# Altium footprint library common.PcbLib: 22 footprints (part 1 of 2)
Each footprint in its own frame and in the unit in brackets; x right, y up, seen from the top. Pads: shape width x height; smd on the part's side, far side on the other; paste and mask are expansions set on the pad; w line width, h text height; cw(c..) or ccw(c..) is an arc to the next point about the centre after c.
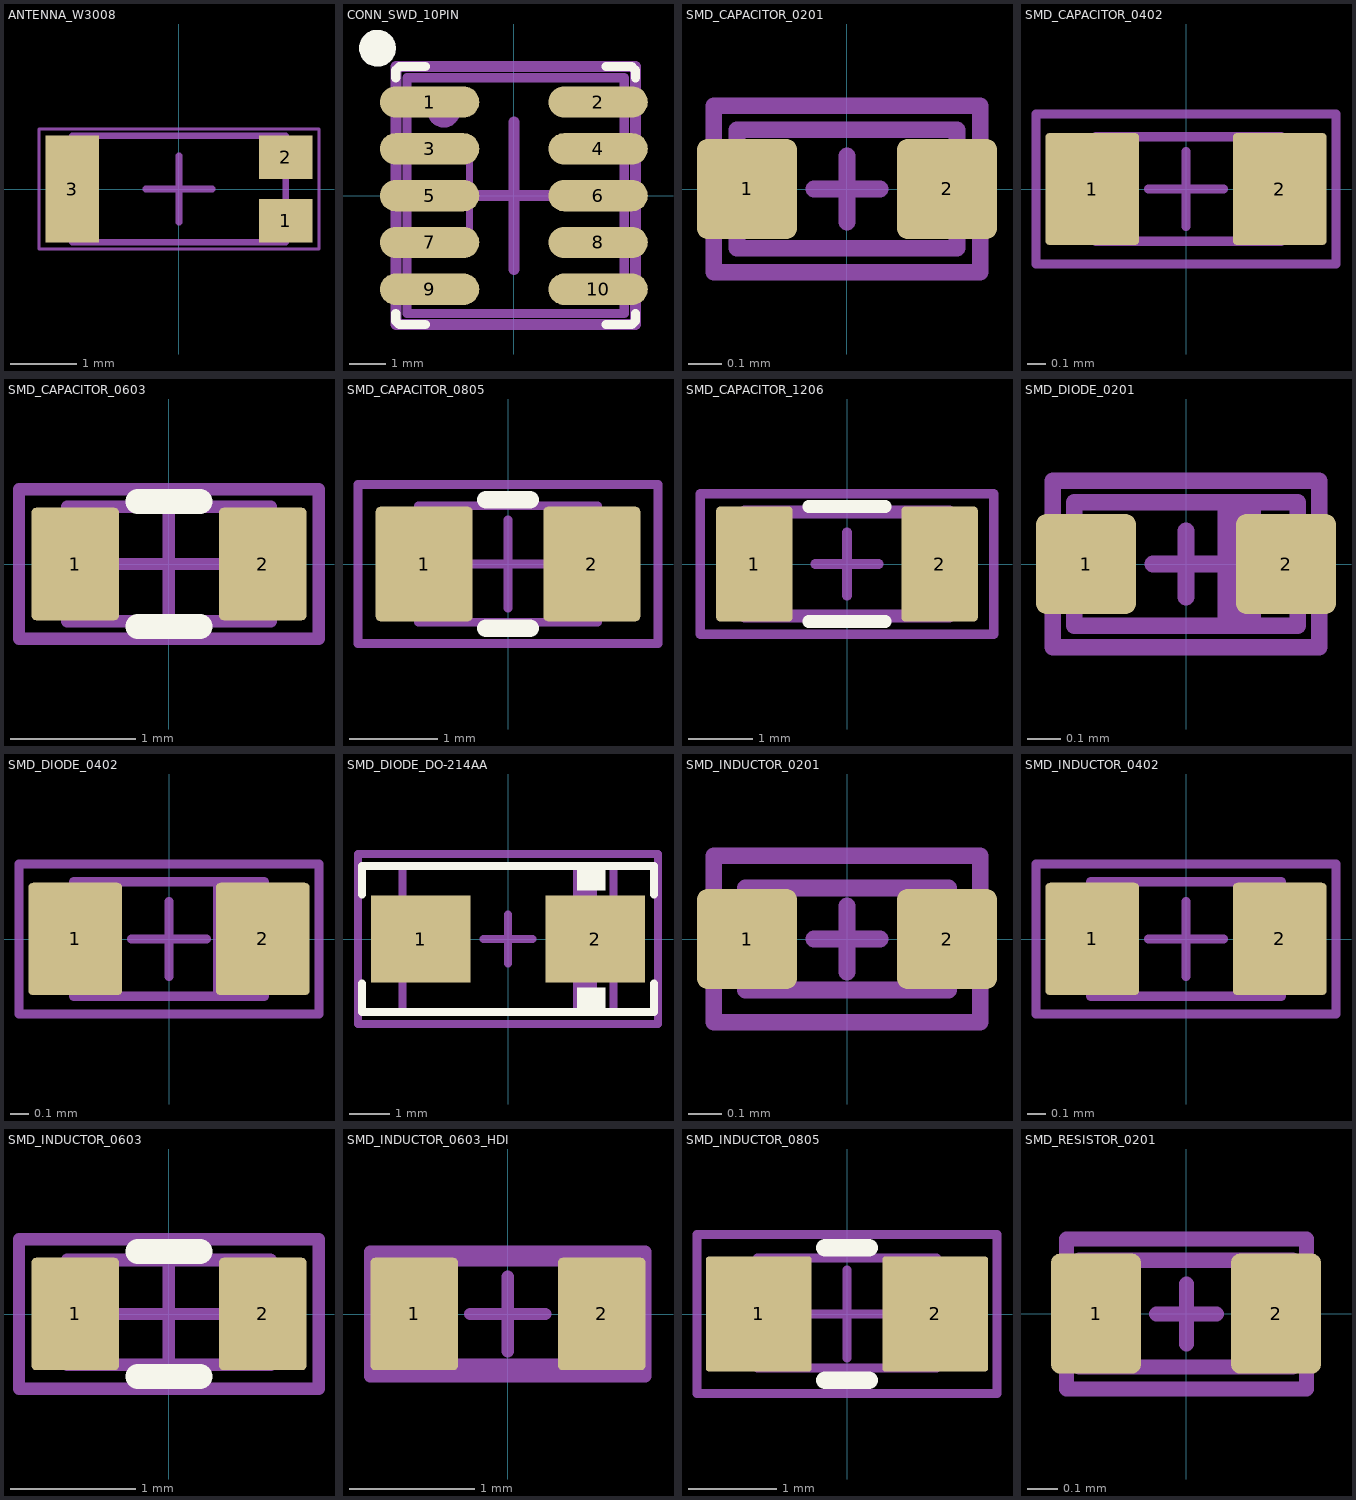
[diagram p0: the footprints below, top view; thin cyan lines are the x and y axes]

## ANTENNA_W3008 [mm]
pads (3):
  rect 0.8x0.65 smd: 1(1.6,-0.475) 2(1.6,0.475)
  rect 0.8x1.6 smd: 3(-1.6,0)
Top 3D Body:
  lines w0.1: -1.6,-0.8 1.6,-0.8 1.6,0.8 -1.6,0.8 -1.6,-0.8
Top Assembly (Mech15):
  lines w0.05: -2.1,-0.9 2.1,-0.9 2.1,0.9 -2.1,0.9 -2.1,-0.9
  lines w0.1: -0.5,0 0.5,0 ; 0,-0.5 0,0.5
3D body "ANT_W3008.stp": height 1.1, standoff 0, extent -1.6,-0.8 1.6,0.8

## CONN_SWD_10PIN [mm]
pads (10):
  oval 2.7x0.85 smd paste-0.15 mask+0.07: 1(-2.286,2.54) 2(2.286,2.54) 3(-2.286,1.27) 4(2.286,1.27) 5(-2.286,0) 6(2.286,0) 7(-2.286,-1.27) 8(2.286,-1.27) 9(-2.286,-2.54) 10(2.286,-2.54)
Top Overlay:
  circle w0.5: c-3.7,4 r0.25
  lines w0.25: -3.2,-3.2 -3.2,-3.4 -3.1,-3.5 -2.4,-3.5 ; -3.2,3.2 -3.2,3.4 -3.1,3.5 -2.4,3.5 ; 2.5,-3.5 3.2,-3.5 3.3,-3.4 3.3,-3.2 ; 2.5,3.5 3.2,3.5 3.3,3.4 3.3,3.2
Top 3D Body:
  circle w0.5: c-1.9,2.3 r0.2
  lines w0.2: -2.9,-1.3 -1.2,-1.3 -1.2,1.3 -2.9,1.3
  lines w0.25: -2.9,-3.2 3,-3.2 3,3.2 -2.9,3.2 -2.9,-3.2
Top Assembly (Mech15):
  lines w0.3: -2,0 2,0 ; 0,-2 0,2 ; -3.2,-3.5 3.3,-3.5 3.3,3.5 -3.2,3.5 -3.2,-3.5
3D body "FTSH-105-01-L-DV-K.stp": height 6.11, standoff -0.01, extent -2.921,-3.175 2.921,3.175

## SMD_CAPACITOR_0201 [mm]
pads (2):
  rrect20% 0.3x0.3 smd paste-0.015 mask+0.06: 1(-0.3,0) 2(0.3,0)
Top 3D Body:
  lines w0.051: -0.33,-0.178 -0.33,0.178 0.33,0.178 0.33,-0.178 -0.33,-0.178
Top Assembly (Mech15):
  lines w0.05: -0.1,0 0.1,0 ; 0,-0.1 0,0.1 ; -0.4,-0.25 -0.4,0.25 0.4,0.25 0.4,-0.25 -0.4,-0.25
3D body "CAP 0201.STEP": height 0.3, standoff 0, extent -0.3,-0.15 0.3,0.15

## SMD_CAPACITOR_0402 [mm]
pads (2):
  rrect10% 0.5x0.6 smd paste-1 mask+0.06: 1(-0.5,0) 2(0.5,0)
Top Paste:
  rectangle: -0.73,-0.28 -0.395,0.28
  region: -0.445,-0.095 -0.255,0 -0.395,0.28 -0.585,0.185
  region: -0.585,-0.185 -0.395,-0.28 -0.255,0 -0.445,0.095
  region: 0.445,0.095 0.255,0 0.395,-0.28 0.585,-0.185
  region: 0.585,0.185 0.395,0.28 0.255,0 0.445,-0.095
  region: 0.73,0.28 0.395,0.28 0.395,-0.28 0.73,-0.28
Top 3D Body:
  lines w0.051: -0.483,-0.279 0.508,-0.279 0.508,0.279 -0.483,0.279 -0.483,-0.279
Top Assembly (Mech15):
  lines w0.05: -0.2,0 0.2,0 ; 0,-0.2 0,0.2 ; -0.8,-0.4 -0.8,0.4 0.8,0.4 0.8,-0.4 -0.8,-0.4
3D body "CAP 0402.STEP": height 0.54, standoff 0.02, extent -0.5,-0.263 0.5,0.261

## SMD_CAPACITOR_0603 [mm]
pads (2):
  rrect10% 0.7x0.9 smd paste-1 mask+0.08: 1(-0.75,0) 2(0.75,0)
Top Overlay:
  lines w0.2: -0.25,-0.5 0.25,-0.5 ; -0.25,0.5 0.25,0.5
Top Paste:
  rectangle: -1.07,-0.42 -0.635,0.42
  region: -0.595,-0.085 -0.425,0 -0.635,0.42 -0.805,0.335
  region: -0.805,-0.335 -0.635,-0.42 -0.425,0 -0.595,0.085
  region: 1.07,0.42 0.635,0.42 0.635,-0.42 1.07,-0.42
  region: 0.595,0.085 0.425,0 0.635,-0.42 0.805,-0.335
  region: 0.805,0.335 0.635,0.42 0.425,0 0.595,-0.085
Top 3D Body:
  lines w0.1: -0.813,-0.457 0.813,-0.457 0.813,0.457 -0.813,0.457 -0.813,-0.457
Top Assembly (Mech15):
  lines w0.1: -0.4,0 0.4,0 ; 0,-0.4 0,0.4 ; -1.2,-0.6 1.2,-0.6 1.2,0.6 -1.2,0.6 -1.2,-0.6
3D body "CAP 0603.STEP": height 0.86, standoff 0.04, extent -0.8,-0.392 0.8,0.432

## SMD_CAPACITOR_0805 [mm]
pads (2):
  rrect10% 1.1x1.3 smd paste-3: 1(-0.95,0) 2(0.95,0)
Top Overlay:
  lines w0.2: -0.25,-0.73 0.25,-0.73 ; -0.25,0.73 0.25,0.73
Top Paste:
  rectangle: 0.651,-0.6 1.46,0.6
  region: 0.652,-0.6 0.945,-0.499 0.74,0.101 0.446,0.001
  region: 0.446,-0.001 0.74,-0.101 0.945,0.499 0.652,0.6
  region: -0.652,0.6 -0.945,0.499 -0.74,-0.101 -0.446,-0.001
  region: -0.446,0.001 -0.74,0.101 -0.945,-0.499 -0.652,-0.6
  region: -0.651,0.6 -1.46,0.6 -1.46,-0.6 -0.651,-0.6
Top 3D Body:
  lines w0.1: -1.016,-0.66 -1.016,0.66 1.016,0.66 1.016,-0.66 -1.016,-0.66
Top Assembly (Mech15):
  lines w0.1: -0.5,0 0.5,0 ; 0,-0.5 0,0.5 ; -1.7,-0.9 -1.7,0.9 1.7,0.9 1.7,-0.9 -1.7,-0.9
3D body "CAP 0805.STEP": height 1.29, standoff 0.01, extent -1,-0.635 1,0.639

## SMD_CAPACITOR_1206 [mm]
pads (2):
  rrect10% 1.2x1.8 smd paste-1: 1(-1.45,0) 2(1.45,0)
Top Overlay:
  lines w0.2: -0.6,-0.9 0.6,-0.9 ; -0.6,0.9 0.6,0.9
Top Paste:
  region: 2,0.825 1.157,0.825 1.157,-0.825 2,-0.825
  region: 0.875,0 1.177,-0.103 1.459,0.722 1.158,0.825
  region: 1.158,-0.825 1.459,-0.722 1.177,0.103 0.875,0
  rectangle: -2,-0.825 -1.157,0.825
  region: -1.158,0.825 -1.459,0.722 -1.177,-0.103 -0.875,0
  region: -0.875,0 -1.177,0.103 -1.459,-0.722 -1.158,-0.825
Top 3D Body:
  lines w0.2: -1.6,-0.813 -1.6,0.813 1.6,0.813 1.6,-0.813 -1.6,-0.813
Top Assembly (Mech15):
  lines w0.15: -0.5,0 0.5,0 ; 0,-0.5 0,0.5 ; -2.3,-1.1 2.3,-1.1 2.3,1.1 -2.3,1.1 -2.3,-1.1
3D body "CAP 1206.STEP": height 1.71, standoff 0.09, extent -1.6,-0.811 1.6,0.813

## SMD_DIODE_0201 [mm]
pads (2):
  rrect20% 0.3x0.3 smd paste-0.015 mask+0.06: 1(-0.3,0) 2(0.3,0)
Top 3D Body:
  lines w0.05: 0.12,-0.185 0.12,0.185 ; 0.16,-0.185 0.16,0.185 ; 0.2,-0.185 0.2,0.185 ; -0.335,-0.185 0.335,-0.185 0.335,0.185 -0.335,0.185 -0.335,-0.185
Top Assembly (Mech15):
  lines w0.05: -0.1,0 0.1,0 ; 0,-0.1 0,0.1 ; -0.4,-0.25 0.4,-0.25 0.4,0.25 -0.4,0.25 -0.4,-0.25
3D body "diode_0201.STEP": height 0.32, standoff 0, extent -0.3,-0.152 0.3,0.148

## SMD_DIODE_0402 [mm]
pads (2):
  rrect10% 0.5x0.6 smd paste-1 mask+0.06: 1(-0.5,0) 2(0.5,0)
Top Paste:
  region: 0.73,0.28 0.395,0.28 0.395,-0.28 0.73,-0.28
  region: 0.585,0.185 0.395,0.28 0.255,0 0.445,-0.095
  region: 0.445,0.095 0.255,0 0.395,-0.28 0.585,-0.185
  region: -0.585,-0.185 -0.395,-0.28 -0.255,0 -0.445,0.095
  region: -0.445,-0.095 -0.255,0 -0.395,0.28 -0.585,0.185
  rectangle: -0.73,-0.28 -0.395,0.28
Top 3D Body:
  lines w0.05: 0.26,-0.3 0.26,0.3 ; 0.3,-0.3 0.3,0.3 ; 0.34,-0.3 0.34,0.3 ; 0.36,-0.3 0.36,0.3
  lines w0.051: -0.508,-0.305 0.508,-0.305 0.508,0.305 -0.508,0.305 -0.508,-0.305
Top Assembly (Mech15):
  lines w0.05: -0.2,0 0.2,0 ; 0,-0.2 0,0.2 ; -0.8,-0.4 -0.8,0.4 0.8,0.4 0.8,-0.4 -0.8,-0.4
3D body "diode_0402.STEP": height 0.45, standoff 0, extent -0.5,-0.3 0.5,0.3

## SMD_DIODE_DO-214AA [mm]
pads (2):
  rect 2.45x2.15 smd paste-0.25: 1(-2.15,0) 2(2.15,0)
Top Overlay:
  rectangle: 1.7,-1.9 2.4,-1.2
  rectangle: 1.7,1.2 2.4,1.9
  lines w0.2: -3.6,-1.1 -3.6,-1.8 3.6,-1.8 3.6,-1.1 ; -3.6,1.1 -3.6,1.8 3.6,1.8 3.6,1.1
Top 3D Body:
  rectangle: 1.6,-1.8 2.2,1.8
  lines w0.2: -2.6,-1.8 -2.6,1.8 2.6,1.8 2.6,-1.8 -2.6,-1.8
Top Assembly (Mech15):
  lines w0.2: -0.6,0 0.6,0 ; 0,-0.6 0,0.6 ; -3.7,-2.1 -3.7,2.1 3.7,2.1 3.7,-2.1 -3.7,-2.1
3D body "SMB.STEP": height 2.4, standoff 0, extent -2.6,-1.799 2.6,1.8

## SMD_INDUCTOR_0201 [mm]
pads (2):
  rrect20% 0.3x0.3 smd paste-0.015 mask+0.06: 1(-0.3,0) 2(0.3,0)
Top 3D Body:
  lines w0.051: -0.305,-0.152 0.305,-0.152 0.305,0.152 -0.305,0.152 -0.305,-0.152
Top Assembly (Mech15):
  lines w0.05: -0.1,0 0.1,0 ; 0,-0.1 0,0.1 ; -0.4,-0.25 -0.4,0.25 0.4,0.25 0.4,-0.25 -0.4,-0.25
3D body "INDUC 0201.step": height 0.3, standoff 0, extent -0.303,-0.147 0.297,0.153

## SMD_INDUCTOR_0402 [mm]
pads (2):
  rrect10% 0.5x0.6 smd paste-1 mask+0.06: 1(-0.5,0) 2(0.5,0)
Top Paste:
  rectangle: -0.73,-0.28 -0.395,0.28
  region: -0.445,-0.095 -0.255,0 -0.395,0.28 -0.585,0.185
  region: -0.585,-0.185 -0.395,-0.28 -0.255,0 -0.445,0.095
  region: 0.445,0.095 0.255,0 0.395,-0.28 0.585,-0.185
  region: 0.585,0.185 0.395,0.28 0.255,0 0.445,-0.095
  region: 0.73,0.28 0.395,0.28 0.395,-0.28 0.73,-0.28
Top 3D Body:
  lines w0.051: -0.508,-0.305 -0.508,0.305 0.508,0.305 0.508,-0.305 -0.508,-0.305
Top Assembly (Mech15):
  lines w0.05: -0.2,0 0.2,0 ; 0,-0.2 0,0.2 ; -0.8,-0.4 0.8,-0.4 0.8,0.4 -0.8,0.4 -0.8,-0.4
3D body "INDUC 0402.step": height 0.6, standoff 0, extent -0.5,-0.3 0.5,0.3

## SMD_INDUCTOR_0603 [mm]
pads (2):
  rrect10% 0.7x0.9 smd paste-1 mask+0.06: 1(-0.75,0) 2(0.75,0)
Top Overlay:
  lines w0.2: -0.25,-0.5 0.25,-0.5 ; -0.25,0.5 0.25,0.5
Top Paste:
  region: 0.805,0.335 0.635,0.42 0.425,0 0.595,-0.085
  region: 0.595,0.085 0.425,0 0.635,-0.42 0.805,-0.335
  region: 1.07,0.42 0.635,0.42 0.635,-0.42 1.07,-0.42
  region: -0.805,-0.335 -0.635,-0.42 -0.425,0 -0.595,0.085
  region: -0.595,-0.085 -0.425,0 -0.635,0.42 -0.805,0.335
  rectangle: -1.07,-0.42 -0.635,0.42
Top 3D Body:
  lines w0.102: -0.813,-0.406 -0.813,0.432 0.813,0.432 0.813,-0.406 -0.813,-0.406
Top Assembly (Mech15):
  lines w0.1: -0.4,0 0.4,0 ; 0,-0.4 0,0.4 ; -1.2,-0.6 1.2,-0.6 1.2,0.6 -1.2,0.6 -1.2,-0.6
3D body "45632.stp": height 0.85, standoff 0.05, extent -0.8,-0.4 0.8,0.4

## SMD_INDUCTOR_0603_HDI [mm]
pads (2):
  rrect10% 0.7x0.9 smd paste-1 mask+0.06: 1(-0.75,0) 2(0.75,0)
Top Paste:
  rectangle: -1.07,-0.42 -0.635,0.42
  region: -0.595,-0.085 -0.425,0 -0.635,0.42 -0.805,0.335
  region: -0.805,-0.335 -0.635,-0.42 -0.425,0 -0.595,0.085
  region: 1.07,0.42 0.635,0.42 0.635,-0.42 1.07,-0.42
  region: 0.595,0.085 0.425,0 0.635,-0.42 0.805,-0.335
  region: 0.805,0.335 0.635,0.42 0.425,0 0.595,-0.085
Top 3D Body:
  lines w0.102: -0.813,-0.406 0.813,-0.406 0.813,0.432 -0.813,0.432 -0.813,-0.406
Top Assembly (Mech15):
  lines w0.1: -0.3,0 0.3,0 ; 0,-0.3 0,0.3 ; -1.1,-0.5 -1.1,0.5 1.1,0.5 1.1,-0.5 -1.1,-0.5
3D body "45632.stp": height 0.8, standoff 0, extent -0.8,-0.4 0.8,0.4

## SMD_INDUCTOR_0805 [mm]
pads (2):
  rrect5% 1.2x1.3 smd paste-3: 1(-1,0) 2(1,0)
Top Overlay:
  lines w0.2: -0.25,-0.75 0.25,-0.75 ; -0.25,0.75 0.25,0.75
Top Paste:
  rectangle: 0.651,-0.6 1.55,0.6
  region: 0.652,-0.6 0.945,-0.499 0.74,0.101 0.446,0.001
  region: 0.446,-0.001 0.74,-0.101 0.945,0.499 0.652,0.6
  region: -0.652,0.6 -0.945,0.499 -0.74,-0.101 -0.446,-0.001
  region: -0.446,0.001 -0.74,0.101 -0.945,-0.499 -0.652,-0.6
  region: -0.651,0.6 -1.55,0.6 -1.55,-0.6 -0.651,-0.6
Top 3D Body:
  lines w0.102: -1.016,-0.61 -1.016,0.635 1.016,0.635 1.016,-0.61 -1.016,-0.61
Top Assembly (Mech15):
  lines w0.1: -0.5,0 0.5,0 ; 0,-0.5 0,0.5 ; -1.7,-0.9 -1.7,0.9 1.7,0.9 1.7,-0.9 -1.7,-0.9
3D body "User Library-ind_0805.step": height 0.95, standoff 0, extent -1,-0.6 1,0.6

## SMD_RESISTOR_0201 [mm]
pads (2):
  rrect20% 0.3x0.4 smd paste+0 mask+0.06: 1(-0.3,0) 2(0.3,0)
Top 3D Body:
  lines w0.051: -0.356,-0.178 -0.356,0.178 0.356,0.178 0.356,-0.178 -0.356,-0.178
Top Assembly (Mech15):
  lines w0.05: -0.098,-0.001 0.102,-0.001 ; 0.002,-0.101 0.002,0.099 ; -0.398,-0.251 0.402,-0.251 0.402,0.249 -0.398,0.249 -0.398,-0.251
3D body "RES 0201.STEP": height 0.22, standoff 0, extent -0.3,-0.15 0.3,0.15